# EAGLE library part LM393P (library 1A-meinLib)
Dual Komparator, Open Collector
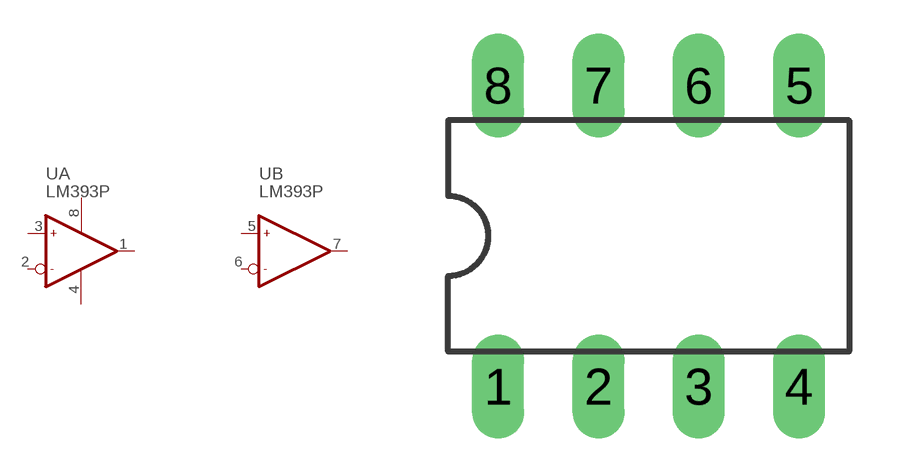
[diagram p3: symbol with the pads of DIL08; footprint DIL08]

Designator prefix -; gates A=KOMPARATOR_OC B=KOMPARATOR_OC G$3=PWR+-

## LM393P  [DIL08]
1  A:OUT  oc
2  A:-IN  in
3  A:+IN  in
4  G$3:V-  pwr
5  B:+IN  in
6  B:-IN  in
7  B:OUT  oc
8  G$3:V+  pwr

## Footprint DIL08 (pad centres in mm)
Dual In Line Package
drill 0.813 long: 1 -3.81,-3.81; 2 -1.27,-3.81; 3 1.27,-3.81; 4 3.81,-3.81; 5 3.81,3.81; 6 1.27,3.81; 7 -1.27,3.81; 8 -3.81,3.81